# EAGLE library part GATEDRIVER_PWM_DT (library 2018)
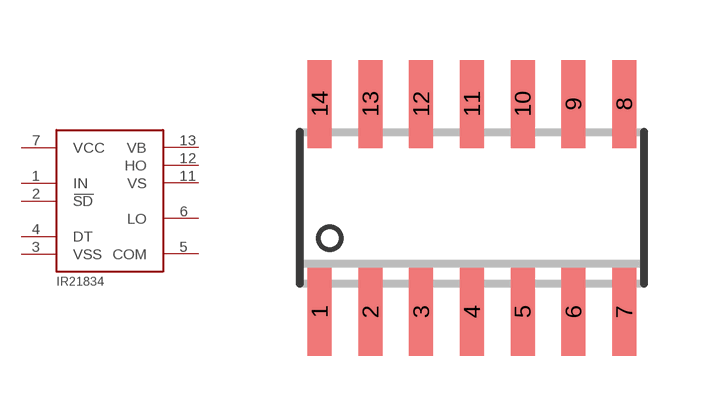
[diagram p11: symbol with the pads of SO14; footprint SO14]

Designator prefix -

## GATEDRIVER_PWM_DT_FAN7393A  [SO14]
1  IN
2  SD
3  VSS
4  DT
5  COM
6  LO
7  VCC
11  VS
12  HO
13  VB

## Footprint SO14 (pad centres in mm)
14-Lead Narrow-Body SOIC (SO-14) Source: http://www.analog.com/static/imported-files/data_sheets/SSM2166.pdf
smd 0.6 x 2.2: 1 -3.81,-2.6; 2 -2.54,-2.6; 3 -1.27,-2.6; 4 0,-2.6; 5 1.27,-2.6; 6 2.54,-2.6; 7 3.81,-2.6; 8 3.81,2.6; 9 2.54,2.6; 10 1.27,2.6; 11 0,2.6; 12 -1.27,2.6; 13 -2.54,2.6; 14 -3.81,2.6